# Altium footprint library Inductors.PcbLib: 45 footprints (part 3 of 3)
Each footprint in its own frame and in the unit in brackets; x right, y up, seen from the top. Pads: shape width x height; smd on the part's side, far side on the other; paste and mask are expansions set on the pad; w line width, h text height; cw(c..) or ccw(c..) is an arc to the next point about the centre after c.
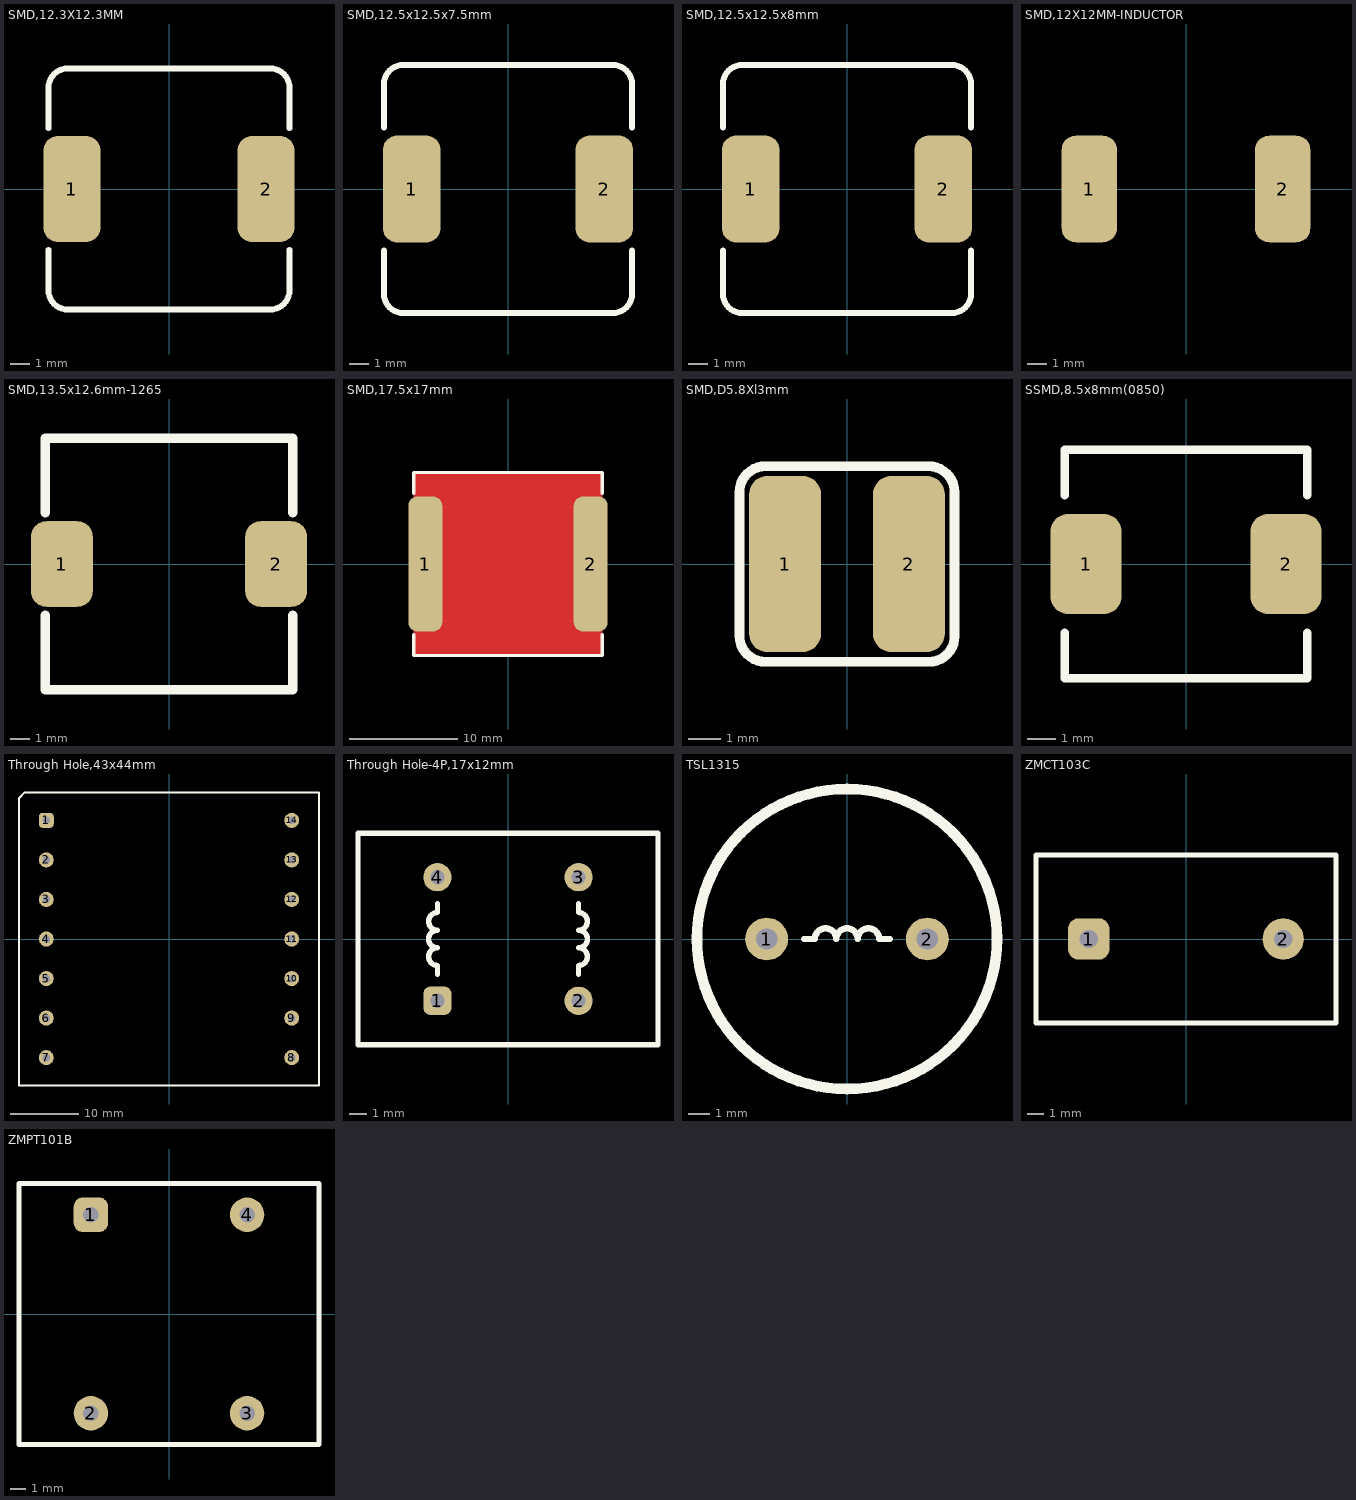
[diagram p2: the footprints below, top view; thin cyan lines are the x and y axes]

## SMD,12.3X12.3MM [mm]
pads (2):
  rrect50% 2.9x5.4 smd: 1(-4.95,0) 2(4.95,0)
Top Overlay:
  lines w0.3: -6.15,-3.1 -6.15,-5.15 ccw(c-5.15,-5.15) -5.15,-6.15 5.15,-6.15 ccw(c5.15,-5.15) 6.15,-5.15 6.15,-3.1 ; -6.15,3.1 -6.15,5.15 cw(c-5.15,5.15) -5.15,6.15 5.15,6.15 cw(c5.15,5.15) 6.15,5.15 6.15,3.1 ; -4.88,6.15 -4.85,6.15

## SMD,12.5x12.5x7.5mm [mm]
pads (2):
  rrect50% 2.9x5.4 smd: 1(-4.85,0) 2(4.85,0)
Top Overlay:
  lines w0.3: -6.25,-3.1 -6.25,-5.25 ccw(c-5.25,-5.25) -5.25,-6.25 5.25,-6.25 ccw(c5.25,-5.25) 6.25,-5.25 6.25,-3.1 ; -6.25,3.1 -6.25,5.25 cw(c-5.25,5.25) -5.25,6.25 5.25,6.25 cw(c5.25,5.25) 6.25,5.25 6.25,3.1
3D body "SMD,12.5x12.5mm.stp": height 7.5, standoff 0, extent -6.25,-6.25 6.25,6.25

## SMD,12.5x12.5x8mm [mm]
pads (2):
  rrect50% 2.9x5.4 smd: 1(-4.85,0) 2(4.85,0)
Top Overlay:
  lines w0.3: -6.25,-3.1 -6.25,-5.25 ccw(c-5.25,-5.25) -5.25,-6.25 5.25,-6.25 ccw(c5.25,-5.25) 6.25,-5.25 6.25,-3.1 ; -6.25,3.1 -6.25,5.25 cw(c-5.25,5.25) -5.25,6.25 5.25,6.25 cw(c5.25,5.25) 6.25,5.25 6.25,3.1
3D body "SMD,12.5x12.5mm.stp": height 7.5, standoff 0, extent -6.25,-6.25 6.25,6.25

## SMD,12X12MM-INDUCTOR [mm]
pads (2):
  rrect50% 2.8x5.4 smd: 1(-4.9,0) 2(4.9,0)
3D body "SCB1207.STEP": height 8.7, standoff 0.3, extent -6.226,-5.985 6.189,6.015

## SMD,13.5x12.6mm-1265 [mm]
pads (2):
  rrect50% 3.25x4.5 smd: 1(-5.625,0) 2(5.625,0)
Top Overlay:
  lines w0.5: -6.5,-2.7 -6.5,-6.6 6.5,-6.6 6.5,-2.7 ; -6.5,2.7 -6.5,6.6 6.5,6.6 6.5,2.7
3D body "CIP1265.step": height 6.7, standoff 0, extent -6.55,-6.4 6.55,6.4

## SMD,17.5x17mm [mm]
pads (2):
  rrect50% 3.15x12.5 smd: 1(-7.675,0) 2(7.675,0)
Top Layer:
  pour cut-out: -8.75,8.5 8.75,8.5 8.75,-8.5 -8.75,-8.5
Bottom Layer:
  pour cut-out: -8.75,-8.5 8.75,-8.5 8.75,8.5 -8.75,8.5
Top Overlay:
  lines w0.3: -8.75,-6.55 -8.75,-8.5 8.75,-8.5 8.75,-6.55 ; -8.75,6.55 -8.75,8.5 8.75,8.5 8.75,6.55

## SMD,D5.8Xl3mm [mm]
pads (2):
  rrect50% 2.2x5.4 smd: 1(-1.9,0) 2(1.9,0)
Top Overlay:
  lines w0.3: -3.3,-2.2 ccw(c-2.5,-2.2) -2.5,-3 2.517,-3 ccw(c2.517,-2.217) 3.3,-2.217 3.3,2.2 ccw(c2.5,2.2) 2.5,3 -2.5,3 ccw(c-2.5,2.2) -3.3,2.2 -3.3,-2.2
3D body "PD5832 SMD Power Inductors.STEP": height 3.5, standoff -0.02, extent -2.874,-2.733 2.874,2.733

## SSMD,8.5x8mm(0850) [mm]
pads (2):
  rrect50% 2.5x3.5 smd: 1(-3.5,0) 2(3.5,0)
Top Overlay:
  lines w0.3: -4.25,-2.4 -4.25,-4 4.25,-4 4.25,-2.4 ; -4.25,2.4 -4.25,4 4.25,4 4.25,2.4
3D body "ETQP4M6R8KVK.step": height 4.09, standoff 0.09, extent -4.25,-4 4.25,4

## Through Hole,43x44mm [mm]
pads (14):
  rrect50% 2.2x2.2 hole 1.1: 1(-18,17.4)
  round 2.2 hole 1.1: 2(-18,11.6) 3(-18,5.8) 4(-18,0) 5(-18,-5.8) 6(-18,-11.6) 7(-18,-17.4) 8(18,-17.4) 9(18,-11.6) 10(18,-5.8) 11(18,0) 12(18,5.8) 13(18,11.6) 14(18,17.4)
Top Overlay:
  lines w0.3: -22,-21.5 -22,20.649 -21.149,21.5 22,21.5 22,-21.5 -22,-21.5
3D body "WE-LLCR_ETD39_LLCR+(rev1)[1].stp": height 29.45, standoff -3.2, extent -21.55,-20.9 21.55,20.9

## Through Hole-4P,17x12mm [mm]
pads (4):
  rrect50% 1.6x1.6 hole 0.8: 1(-4,-3.5)
  round 1.6 hole 0.8: 2(4,-3.5) 3(4,3.5) 4(-4,3.5)
Top Overlay:
  lines w0.3: -4,-2 -4,-1.5 cw(c-4,-1) -4,-0.5 cw(c-4,0) -4,0.5 cw(c-4,1) -4,1.5 -4,2 ; 4,-2 4,-1.5 ccw(c4,-1) 4,-0.5 ccw(c4,0) 4,0.5 ccw(c4,1) 4,1.5 4,2 ; -8.5,-6 -8.5,6 8.5,6 8.5,-6 -8.5,-6
3D body "UU TYPE line choke.stp": height 15.75, standoff -3, extent -7.849,-5.3 7.849,5.3

## TSL1315 [mm]
pads (2):
  round 2 hole 1 mask+0.3: 1(-3.75,0) 2(3.75,0)
Top Overlay:
  circle w0.5: c0,0 r7
  lines w0.3: -2,0 -1.5,0 cw(c-1,0) -0.5,0 cw(c0,0) 0.5,0 cw(c1,0) 1.5,0 2,0
3D body "TSL1315.step": height 16.76, standoff -4.98, extent -7,-7 7.015,7

## ZMCT103C [mm]
pads (2):
  rrect50% 2.5x2.5 hole 1.1: 1(-5.9,0)
  round 2.5 hole 1.1: 2(5.9,0)
Top Overlay:
  lines w0.3: -9.1,-5.1 9.1,-5.1 9.1,5.1 -9.1,5.1 -9.1,-5.1
3D body "zmct103c.stp": height 19, standoff -3.9, extent -9,-5 9,5

## ZMPT101B [mm]
pads (4):
  rrect50% 2.2x2.2 hole 1: 1(-5,6.35)
  round 2.2 hole 1: 2(-5,-6.35) 3(5,-6.35) 4(5,6.35)
Top Overlay:
  lines w0.3: -9.6,-8.35 -9.6,8.35 9.6,8.35 9.6,-8.35 -9.6,-8.35
3D body "ZMPT101B.STEP": height 18, standoff -4, extent -9.5,-8 9.5,8